# EAGLE library part IRF7750 (library OSSI)
IRF7750 Dual P-channel MOSFET Vdss = -20V Rds(on) = 0.030 Ohm Id = 3.8A at(70 celsius degree) Vgs = -1.2V max
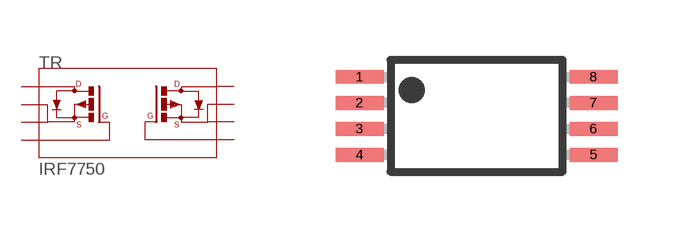
[diagram p30: symbol with the pads of TSSOP-8; footprint TSSOP-8]

Designator prefix TR

## IRF7750  [TSSOP-8]
1  1  pas
2  2  pas
3  3  pas
4  4  pas
5  5  pas
6  6  pas
7  7  pas
8  8  pas

## Footprint TSSOP-8 (pad centres in mm)
smd 1.2 x 0.35: 1 -2.925,0.975; 2 -2.925,0.325; 3 -2.925,-0.325; 4 -2.925,-0.975; 5 2.925,-0.975; 6 2.925,-0.325; 7 2.925,0.325; 8 2.925,0.975